# EAGLE library part 74*4245 (library harp input expander)
Octal BUS TRANSCEIVER, 3-state
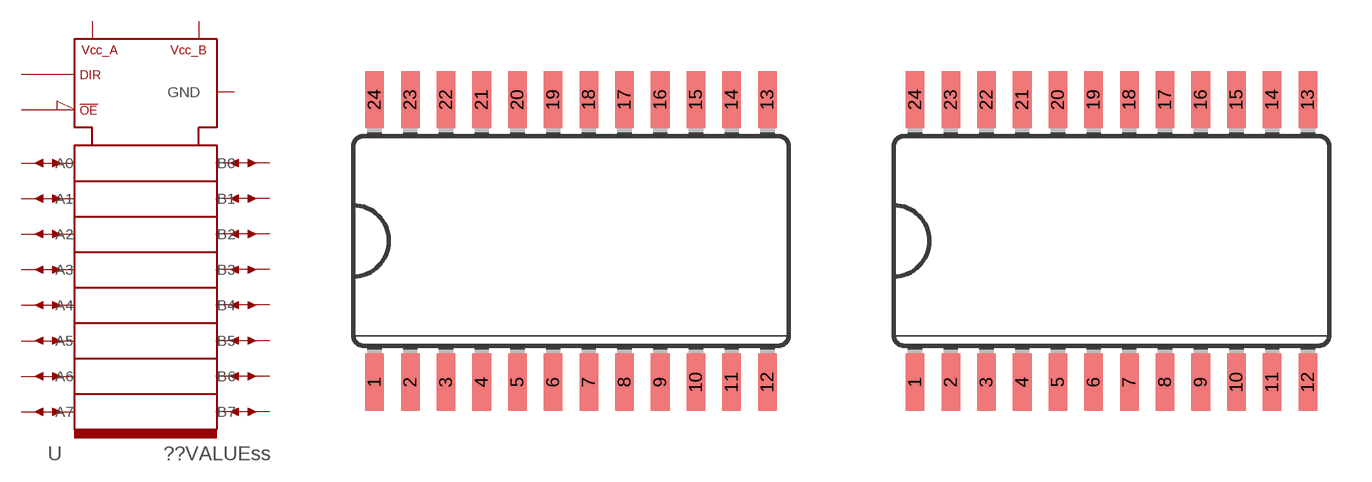
[diagram p3: symbol with the pads of SO24L; footprints SO24L, SO24]

Designator prefix U

## 744245TECH2  [SO24L]
1  VCC_A  in
2  DIR  in
3  A0
4  A1
5  A2
6  A3
7  A4
8  A5
9  A6
10  A7
11  GND
12  GND
13  GND
14  B7
15  B6
16  B5
17  B4
18  B3
19  B2
20  B1
21  B0
22  OE  in
23  VCC_B  in
24  VCC_B  in

## 744245, 74TECH24245  [SO24]
Pads as for SO24L

## Footprint SO24L (pad centres in mm)
24-Lead (300-Mil) SOIC S13 Source: www.cypress.com .. CY7C6301XX.pdf
smd 0.66 x 2.032: 1 -6.985,-5.029; 2 -5.715,-5.029; 3 -4.445,-5.029; 4 -3.175,-5.029; 5 -1.905,-5.029; 6 -0.635,-5.029; 7 0.635,-5.029; 8 1.905,-5.029; 9 3.175,-5.029; 10 4.445,-5.029; 11 5.715,-5.029; 12 6.985,-5.029; 13 6.985,5.029; 14 5.715,5.029; 15 4.445,5.029; 16 3.175,5.029; 17 1.905,5.029; 18 0.635,5.029; 19 -0.635,5.029; 20 -1.905,5.029; 21 -3.175,5.029; 22 -4.445,5.029; 23 -5.715,5.029; 24 -6.985,5.029

## Footprint SO24 (pad centres in mm)
24-Lead (300-Mil) SOIC S13 Source: www.cypress.com .. CY7C6301XX.pdf
smd 0.66 x 2.032: 1 -6.985,-5.029; 2 -5.715,-5.029; 3 -4.445,-5.029; 4 -3.175,-5.029; 5 -1.905,-5.029; 6 -0.635,-5.029; 7 0.635,-5.029; 8 1.905,-5.029; 9 3.175,-5.029; 10 4.445,-5.029; 11 5.715,-5.029; 12 6.985,-5.029; 13 6.985,5.029; 14 5.715,5.029; 15 4.445,5.029; 16 3.175,5.029; 17 1.905,5.029; 18 0.635,5.029; 19 -0.635,5.029; 20 -1.905,5.029; 21 -3.175,5.029; 22 -4.445,5.029; 23 -5.715,5.029; 24 -6.985,5.029